# Altium schematic symbol library Schlib1.SchLib: 6 symbols
Pins are listed as number, name and electrical type; pins without a type are passive.

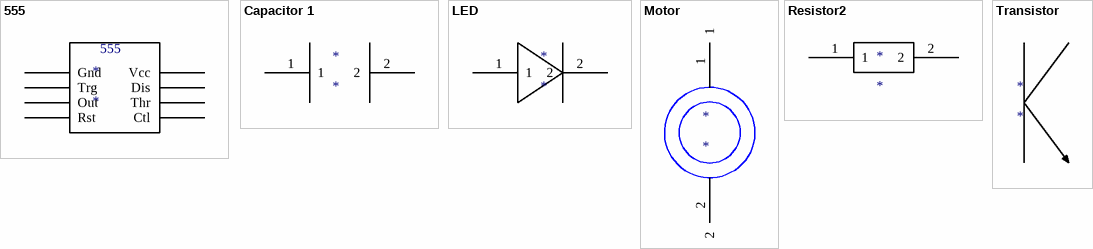
[diagram p0: symbols 555 to Transistor]

## 555
designator *
footprint 555
pins: ?1 Gnd, ?2 Trg, ?3 Out, ?4 Rst, ?5 Vcc, ?6 Dis, ?7 Thr, ?8 Ctl

## Capacitor 1
designator *
footprint Polarized Capacitor
pins: 1, 2

## LED
designator *
footprint Diode
pins: 1, 2

## Motor
designator *
footprint Motor
pins: 1, 2

## Resistor2
designator *
footprint Resistor 1
pins: 1, 2

## Transistor
designator *
footprint TRANSISTOR